# EAGLE library part FI_10M5P (library dtoy-RF)
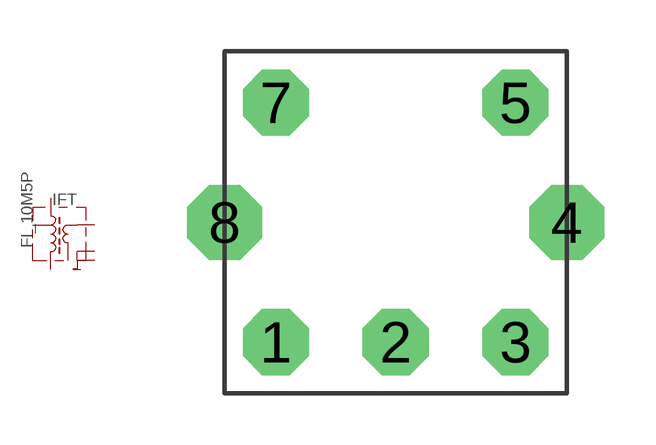
[diagram p2: symbol with the pads of FI_10M5P; footprint FI_10M5P]

Designator prefix IFT

## FI_10M5P7MM-STD  [FI_10M5P]
1  1  pas
2  2  pas
3  3  pas
4  4  pas
5  5  pas
7  6  pas
8  8  pas

## Footprint FI_10M5P (pad centres in mm)
drill 0.813 pad 1.93 octagon: 1 -3.5,-3.5; 2 0,-3.5; 3 3.5,-3.5; 5 3.5,3.5; 7 -3.5,3.5
drill 0.813 pad 2.184 octagon: 4 5,0; 8 -5,0